# EAGLE library part CONN_8-1 (library open-bldc)
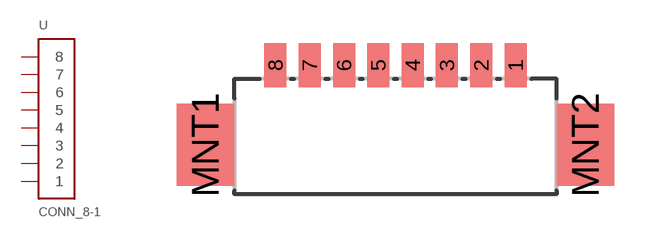
[diagram p18: symbol with the pads of PB-53261-08; footprint PB-53261-08]

Designator prefix -

## CONN_8-1  [PB-53261-08]
1  1
2  2
3  3
4  4
5  5
6  6
7  7
8  8

## Footprint PB-53261-08 (pad centres in mm)
smd 0.8 x 1.6: 1 4.375,1.1; 2 3.125,1.1; 3 1.875,1.1; 4 0.625,1.1; 5 -0.625,1.1; 6 -1.875,1.1; 7 -3.125,1.1; 8 -4.375,1.1
smd 2.1 x 3: MNT1 -6.925,-1.8; MNT2 6.925,-1.8